# EAGLE library part MCP1640 (library Regulator)
0.65V Start-up Synchronous Boost Regulator with True Output Disconnect or Input/Output Bypass Option Datasheet <http://www.microchip.com/mymicrochip/filehandler.aspx?ddocname=en547085>
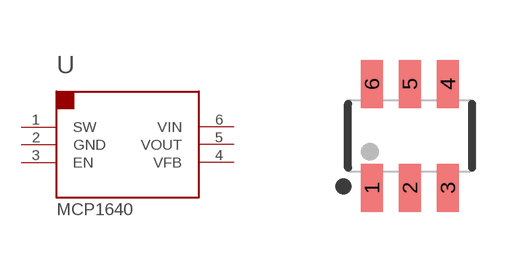
[diagram p4: symbol with the pads of SOT-23-6; footprint SOT-23-6]

Designator prefix U

## MCP1640T-I/CH (PARTNO: 01-100489-00; PWM-PFM: Both; SHUTDOWN: True Disconnect), MCP1640BT-I/CH (PARTNO: 01-100436-00; PWM-PFM: PWM Only; SHUTDOWN: True Disconnect), MCP1640CT-I/CH (PWM-PFM: Both; SHUTDOWN: Input Bypass), MCP1640DT-I/CH (PWM-PFM: PWM Only; SHUTDOWN: Input Bypass)  [SOT-23-6]
1  SW  in
2  GND  pwr
3  EN  in
4  VFB
5  VOUT  pwr
6  VIN  pwr

## Footprint SOT-23-6 (pad centres in mm)
SOT23-6
smd 0.55 x 1.2: 1 -0.95,-1.3; 2 0,-1.3; 3 0.95,-1.3; 4 0.95,1.3; 5 0,1.3; 6 -0.95,1.3